# Altium schematic symbol library Schlib1.SchLib: 2 symbols
Pins are listed as number, name and electrical type; pins without a type are passive.

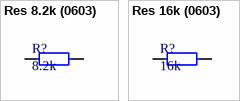
[diagram p0: symbols Res 8.2k (0603) to Res 16k (0603)]

## Res 8.2k (0603)
designator R?, comment 8.2k
0.1W 0603 8.2k, 1%; Manufacturer: Taiwan; Part number: RC0603FR-078R2L; ComponentLink1Description: Chip&Dip; ComponentLink1URL: https://www.chipdip.ru/product0/9000079556; ComponentLink2Description: Datasheet; ComponentLink2URL: ttps://static.chipdip.ru/lib/788/DOC004788200.pdf
footprint 0603 Resistor
pins: 1, 2

## Res 16k (0603)
designator R?, comment 16k
0.1W 0603 16k, 1%; Manufacturer: Taiwan; Part number: RC0603FR-0716KL; ComponentLink1Description: Chip&Dip; ComponentLink1URL: https://www.chipdip.ru/product0/9000079741; ComponentLink2Description: Datasheet; ComponentLink2URL: https://static.chipdip.ru/lib/788/DOC004788200.pdf
footprint 0603 Resistor
pins: 1, 2